# Altium footprint library FootPrintLib_6.PcbLib: 588 footprints (part 36 of 37)
Each footprint in its own frame and in the unit in brackets; x right, y up, seen from the top. Pads: shape width x height; smd on the part's side, far side on the other; paste and mask are expansions set on the pad; w line width, h text height; cw(c..) or ccw(c..) is an arc to the next point about the centre after c.
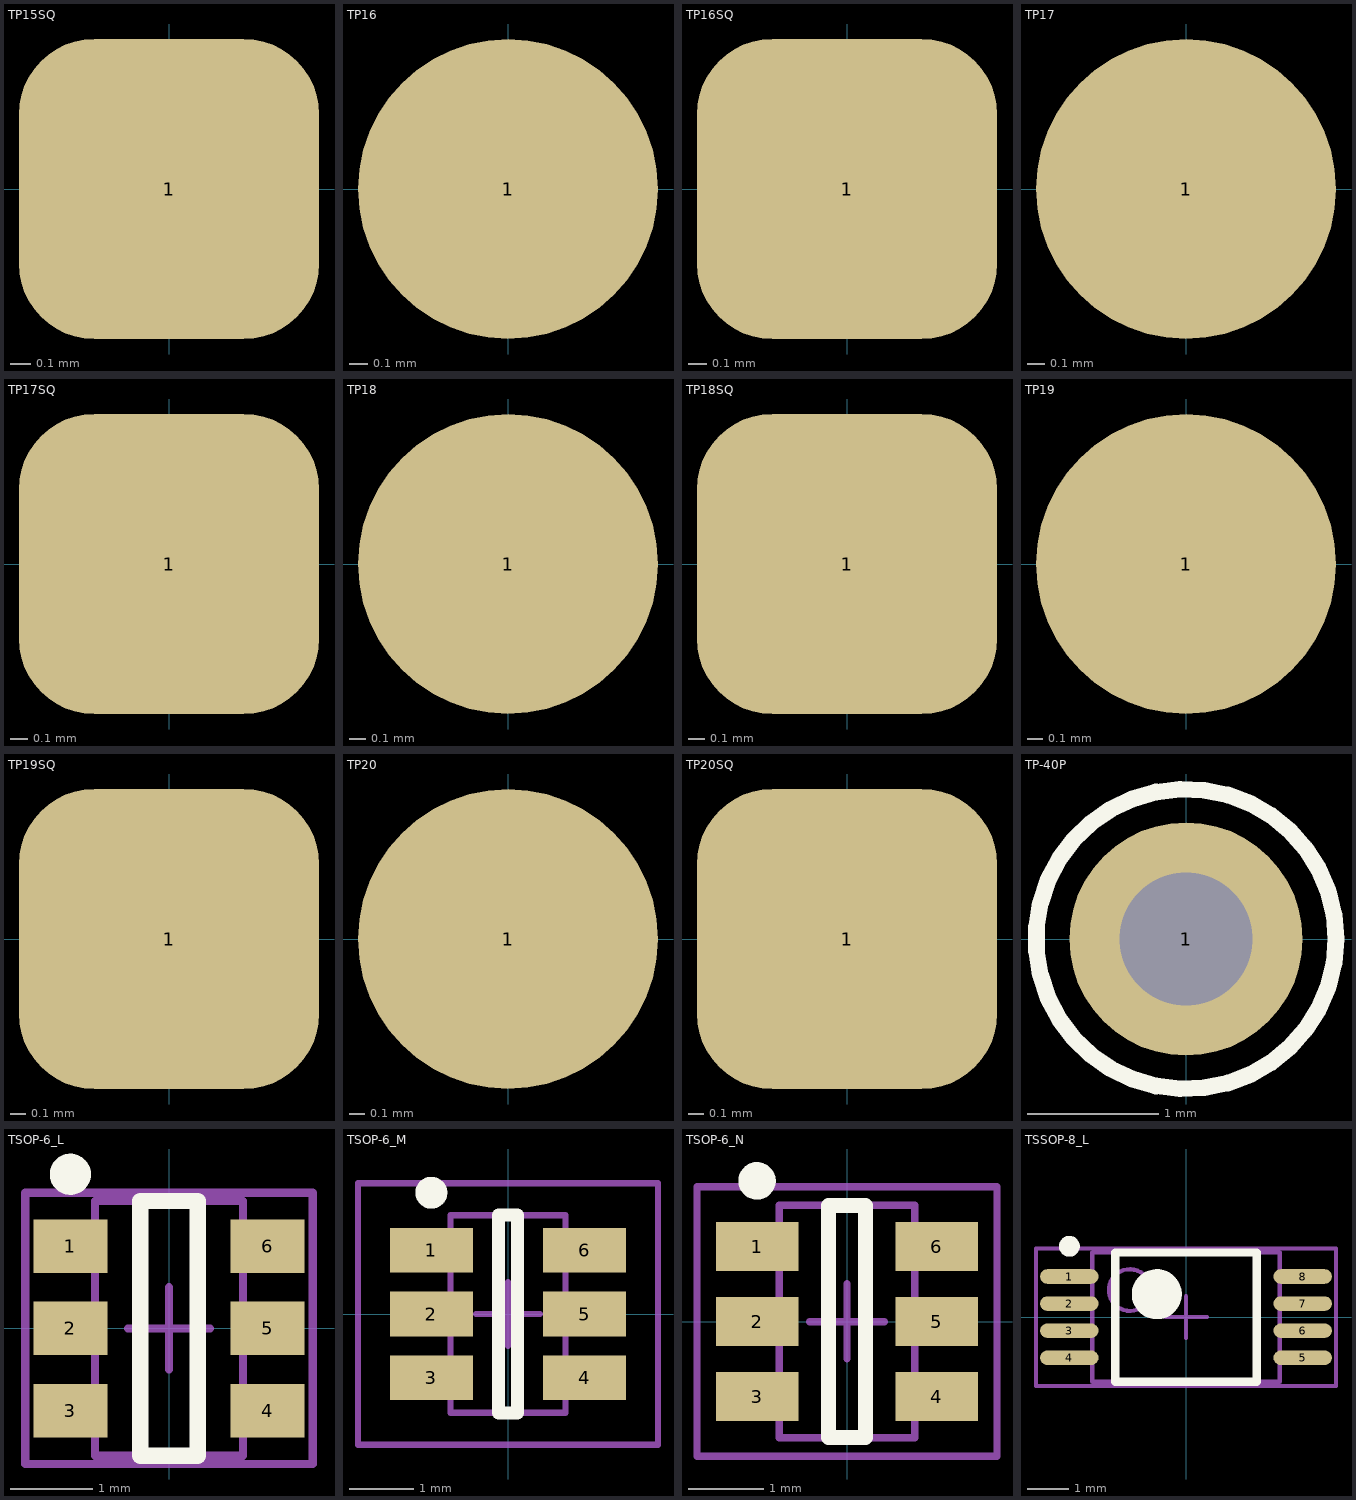
[diagram p35: the footprints below, top view; thin cyan lines are the x and y axes]

## TP15SQ [mm] "Square SMD Test Pin; 1.5 mm"
pads (1):
  rrect50% 1.5x1.5 smd: 1(0,0)

## TP16 [mm] "Round SMD Test Pin; 1.6 mm"
pads (1):
  round 1.6 smd: 1(0,0)

## TP16SQ [mm] "Square SMD Test Pin; 1.6 mm"
pads (1):
  rrect50% 1.6x1.6 smd: 1(0,0)

## TP17 [mm] "Round SMD Test Pin; 1.7 mm"
pads (1):
  round 1.7 smd: 1(0,0)

## TP17SQ [mm] "Square SMD Test Pin; 1.7 mm"
pads (1):
  rrect50% 1.7x1.7 smd: 1(0,0)

## TP18 [mm] "Round SMD Test Pin; 1.8 mm"
pads (1):
  round 1.8 smd: 1(0,0)

## TP18SQ [mm] "Square SMD Test Pin; 1.8 mm"
pads (1):
  rrect50% 1.8x1.8 smd: 1(0,0)

## TP19 [mm] "Round SMD Test Pin; 1.9 mm"
pads (1):
  round 1.9 smd: 1(0,0)

## TP19SQ [mm] "Square SMD Test Pin; 1.9 mm"
pads (1):
  rrect50% 1.9x1.9 smd: 1(0,0)

## TP20 [mm] "Round SMD Test Pin; 2.0 mm"
pads (1):
  round 2 smd: 1(0,0)

## TP20SQ [mm] "Square SMD Test Pin; 2.0 mm"
pads (1):
  rrect50% 2x2 smd: 1(0,0)

## TP-40P [mil] "Testpoint - 40 mil Hole Size"
height 190
pads (1):
  round 70 hole 40: 1(0,0)
Top Overlay:
  circle w5: c0,0 r45

## TSOP-6_L [mm] "SOT23, 6-Leads, Body 3x1.5mm, Pitch 1mm, Lead Span 2.7mm, IPC High Density"
height 1.1
pads (6):
  rect 0.9x0.65 smd: 1(-1.2,1) 2(-1.2,0) 3(-1.2,-1) 4(1.2,-1) 5(1.2,0) 6(1.2,1)
Top Overlay:
  circle w0.25: c-1.2,1.875 r0.125
  lines w0.2: -0.35,-1.55 -0.35,1.55 0.35,1.55 0.35,-1.55 -0.35,-1.55
Mechanical 13:
  lines w0.1: -0.9,-1.55 0.9,-1.55 0.9,1.55 -0.9,1.55 -0.9,-1.55
Mechanical 15:
  lines w0.1: -0.5,0 0.5,0 ; 0,-0.5 0,0.5 ; -1.75,-1.65 1.75,-1.65 1.75,1.65 -1.75,1.65 -1.75,-1.65
3D body: height 1.1, standoff 0, extent -0.9,-1.55 0.9,1.55

## TSOP-6_M [mm] "SOT23, 6-Leads, Body 3x1.5mm, Pitch 1mm, Lead Span 2.7mm, IPC Low Density"
height 1.1
pads (6):
  rect 1.3x0.7 smd: 1(-1.2,1) 2(-1.2,0) 3(-1.2,-1) 4(1.2,-1) 5(1.2,0) 6(1.2,1)
Top Overlay:
  circle w0.25: c-1.2,1.9 r0.125
  lines w0.2: -0.15,-1.55 0.15,-1.55 0.15,1.55 -0.15,1.55 -0.15,-1.55
Mechanical 13:
  lines w0.1: -0.9,-1.55 -0.9,1.55 0.9,1.55 0.9,-1.55 -0.9,-1.55
Mechanical 15:
  lines w0.1: -0.5,0 0.5,0 ; 0,-0.5 0,0.5 ; -2.35,-2.05 -2.35,2.05 2.35,2.05 2.35,-2.05 -2.35,-2.05
3D body: height 1.1, standoff 0, extent -0.9,-1.55 0.9,1.55

## TSOP-6_N [mm] "SOT23, 6-Leads, Body 3x1.5mm, Pitch 1mm, Lead Span 2.7mm, IPC Medium Density"
height 1.1
pads (6):
  rect 1.1x0.65 smd: 1(-1.2,1) 2(-1.2,0) 3(-1.2,-1) 4(1.2,-1) 5(1.2,0) 6(1.2,1)
Top Overlay:
  circle w0.25: c-1.2,1.875 r0.125
  lines w0.2: -0.25,-1.55 -0.25,1.55 0.25,1.55 0.25,-1.55 -0.25,-1.55
Mechanical 13:
  lines w0.1: -0.9,-1.55 0.9,-1.55 0.9,1.55 -0.9,1.55 -0.9,-1.55
Mechanical 15:
  lines w0.1: -0.5,0 0.5,0 ; 0,-0.5 0,0.5 ; -2,-1.8 2,-1.8 2,1.8 -2,1.8 -2,-1.8
3D body: height 1.1, standoff 0, extent -0.9,-1.55 0.9,1.55

## TSSOP-8_L [mm] "TSOP, 8-Leads, Body 3x4.4mm, Pitch 0.65mm, IPC High Density"
height 1.2
pads (8):
  oval 1.4x0.35 smd: 1(-2.8,0.975) 2(-2.8,0.325) 3(-2.8,-0.325) 4(-2.8,-0.975) 5(2.8,-0.975) 6(2.8,-0.325) 7(2.8,0.325) 8(2.8,0.975)
Top Overlay:
  circle w0.6: c-0.7,0.55 r0.3
  circle w0.25: c-2.8,1.7 r0.125
  lines w0.2: -1.7,-1.55 1.7,-1.55 1.7,1.55 -1.7,1.55 -1.7,-1.55
Mechanical 13:
  circle w0.1: c-1.35,0.65 r0.5
  lines w0.1: -2.25,-1.55 2.25,-1.55 2.25,1.55 -2.25,1.55 -2.25,-1.55
Mechanical 15:
  lines w0.1: -0.5,0 0.5,0 ; 0,-0.5 0,0.5 ; -3.6,-1.65 3.6,-1.65 3.6,1.65 -3.6,1.65 -3.6,-1.65
3D body: height 1.2, standoff 0, extent -2.25,-1.55 2.25,1.55